# EAGLE library part ETHERNET-SI60062 (library Icotech_Eagle_Library)
Ethernet jack Becareful subsituting for this part. There are lots of parts (some much cheaper) that have the same footprint but everyone I looked at had a different pinout.
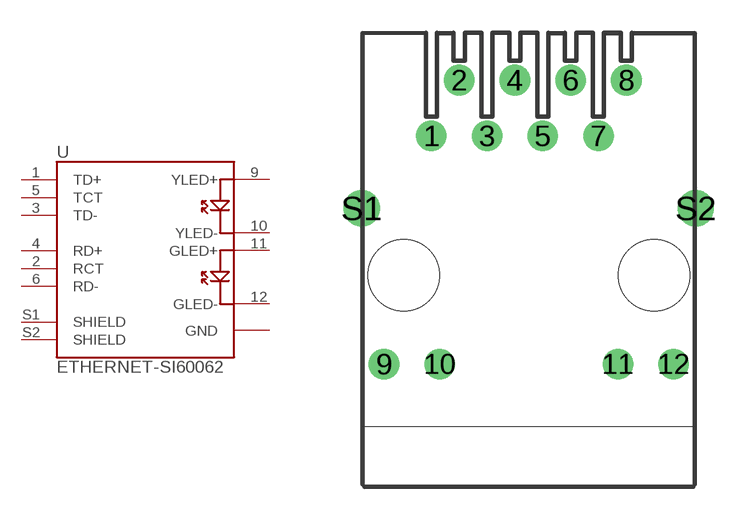
[diagram p7: symbol with the pads of SI40138; footprint SI40138]

Designator prefix -

## ETHERNET-SI60062  [SI40138]
1  TD+
2  RCT
3  TD-
4  RD+
5  TCT
6  RD-
9  YLED+
10  YLED-
11  GLED+
12  GLED-
S1  SHIELD
S2  SHIELD

## Footprint SI40138 (pad centres in mm)
RJ-45 Jack with Integrated Magnetics This RJ-45 jack has integrated magnetics suitable for use with Ethernet.
drill 0.889: 1 -4.445,6.35; 2 -3.175,8.89; 3 -1.905,6.35; 4 -0.635,8.89; 5 0.635,6.35; 6 1.905,8.89; 7 3.175,6.35; 8 4.445,8.89; 9 -6.604,-4.064; 10 -4.064,-4.064; 11 4.064,-4.064; 12 6.604,-4.064
drill 1.1: S1 -7.62,3.048; S2 7.62,3.048
hole 3.251 at -5.715,0
hole 3.251 at 5.715,0